# EAGLE library part TUSB2077A (library signpost)
Full Speed USB Hub - 7 Port
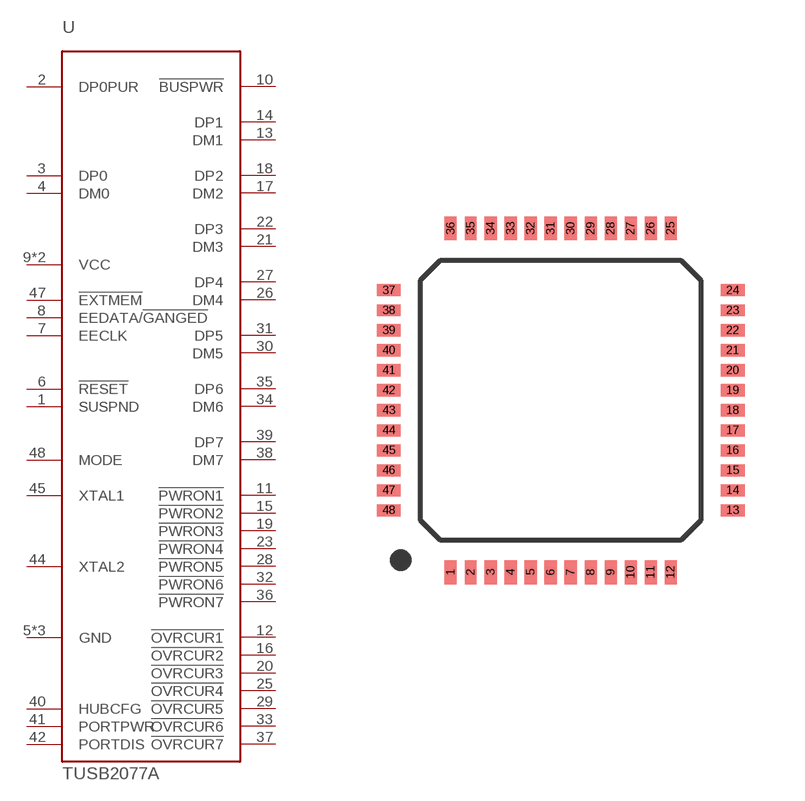
[diagram p4: symbol with the pads of LQFP-48; footprint LQFP-48]

Designator prefix U

## TUSB2077A (DIGIKEY: 296-37871-1-ND)  [LQFP-48]
1  SUSPND
2  DP0PUR
3  DP0
4  DM0
5  GND
6  !RESET
7  EECLK
8  EEDATA/!GANGED
9  VCC
10  !BUSPWR
11  !PWRON1
12  !OVRCUR1
13  DM1
14  DP1
15  !PWRON2
16  !OVRCUR2
17  DM2
18  DP2
19  !PWRON3
20  !OVRCUR3
21  DM3
22  DP3
23  !PWRON4
24  GND
25  !OVRCUR4
26  DM4
27  DP4
28  !PWRON5
29  !OVRCUR5
30  DM5
31  DP5
32  !PWRON6
33  !OVRCUR6
34  DM6
35  DP6
36  !PWRON7
37  !OVRCUR7
38  DM7
39  DP7
40  HUBCFG
41  PORTPWR
42  PORTDIS
43  GND
44  XTAL2
45  XTAL1
46  VCC
47  !EXTMEM
48  MODE

## Footprint LQFP-48 (pad centres in mm)
smd 0.3 x 0.6: 1 -2.75,-4.3; 2 -2.25,-4.3; 3 -1.75,-4.3; 4 -1.25,-4.3; 5 -0.75,-4.3; 6 -0.25,-4.3; 7 0.25,-4.3; 8 0.75,-4.3; 9 1.25,-4.3; 10 1.75,-4.3; 11 2.25,-4.3; 12 2.75,-4.3; 25 2.75,4.3; 26 2.25,4.3; 27 1.75,4.3; 28 1.25,4.3; 29 0.75,4.3; 30 0.25,4.3; 31 -0.25,4.3; 32 -0.75,4.3; 33 -1.25,4.3; 34 -1.75,4.3; 35 -2.25,4.3; 36 -2.75,4.3
smd 0.6 x 0.3: 13 4.3,-2.75; 14 4.3,-2.25; 15 4.3,-1.75; 16 4.3,-1.25; 17 4.3,-0.75; 18 4.3,-0.25; 19 4.3,0.25; 20 4.3,0.75; 21 4.3,1.25; 22 4.3,1.75; 23 4.3,2.25; 24 4.3,2.75; 37 -4.3,2.75; 38 -4.3,2.25; 39 -4.3,1.75; 40 -4.3,1.25; 41 -4.3,0.75; 42 -4.3,0.25; 43 -4.3,-0.25; 44 -4.3,-0.75; 45 -4.3,-1.25; 46 -4.3,-1.75; 47 -4.3,-2.25; 48 -4.3,-2.75